# Altium footprint library QC.PcbLib: 6 footprints
Each footprint in its own frame and in the unit in brackets; x right, y up, seen from the top. Pads: shape width x height; smd on the part's side, far side on the other; paste and mask are expansions set on the pad; w line width, h text height; cw(c..) or ccw(c..) is an arc to the next point about the centre after c.
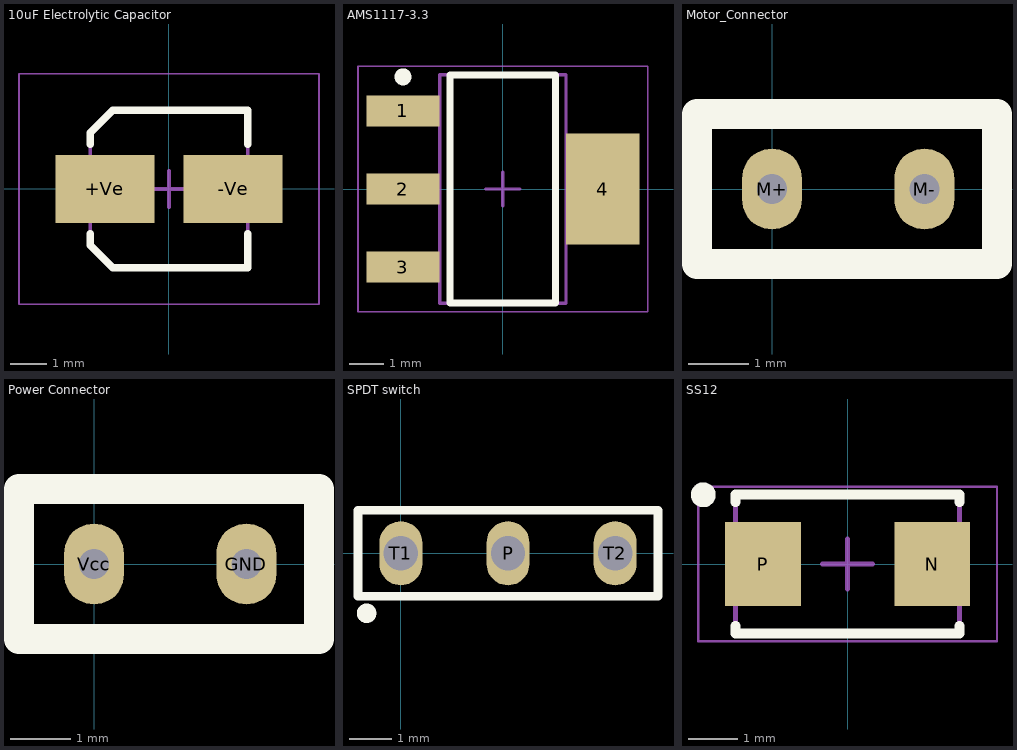
[diagram p0: the footprints below, top view; thin cyan lines are the x and y axes]

## 10uF Electrolytic Capacitor [mm] "Aluminum Electrolytic Capacitor, Body 4.30x4.30x5.40mm, IPC Low Density"
height 5.4
pads (2):
  rect 2.7x1.85 smd: +Ve(-1.75,0) -Ve(1.75,0)
Top Overlay:
  lines w0.2: -2.15,-1.225 -2.15,-1.538 -1.538,-2.15 2.15,-2.15 2.15,-1.225 ; -2.15,1.225 -2.15,1.538 -1.538,2.15 2.15,2.15 2.15,1.225
Mechanical 13:
  lines w0.1: -2.15,-1.538 -1.538,-2.15 2.15,-2.15 2.15,2.15 -1.538,2.15 -2.15,1.538 -2.15,-1.538
Mechanical 15:
  lines w0.05: -4.1,-3.15 -4.1,3.15 4.1,3.15 4.1,-3.15 -4.1,-3.15
  lines w0.1: -0.5,0 0.5,0 ; 0,-0.5 0,0.5
3D body "10uF Electrolytic Capacitor.step": height 5.4, standoff 0, extent -2.3,-2.15 2.3,2.15

## AMS1117-3.3 [mm] "1A LOW DROPOUT VOLTAGE REGULATOR"
height 1.8
pads (4):
  rect 2.15x0.9 smd: 1(-2.93,2.29) 2(-2.93,0) 3(-2.93,-2.29)
  rect 2.15x3.25 smd: 4(2.93,0)
Top Overlay:
  circle w0.25: c-2.93,3.29 r0.125
  lines w0.2: -1.55,-3.35 -1.55,3.35 1.55,3.35 1.55,-3.35 -1.55,-3.35
Mechanical 13:
  lines w0.1: -1.855,-3.355 -1.855,3.355 1.855,3.355 1.855,-3.355 -1.855,-3.355
Mechanical 15:
  lines w0.05: -4.25,-3.6 -4.25,3.6 4.25,3.6 4.25,-3.6 -4.25,-3.6
  lines w0.1: -0.5,0 0.5,0 ; 0,-0.5 0,0.5
3D body "AMS1117-3.3.step": height 1.8, standoff 0, extent -3.5,-3.355 3.5,3.355

## Motor_Connector [mm] "Quadcopter motor connector"
pads (2):
  oval 1x1.35 hole 0.5: M+(0,0) M-(2.54,0)
Top Overlay:
  lines w0.5: -1.25,-1.25 3.75,-1.25 3.75,1.25 -1.25,1.25 -1.25,-1.25

## Power Connector [mm] "connector"
pads (2):
  oval 1x1.35 hole 0.5: GND(2.54,0) Vcc(0,0)
Top Overlay:
  lines w0.5: -1.25,-1.25 3.75,-1.25 3.75,1.25 -1.25,1.25 -1.25,-1.25

## SPDT switch [mm] "switch"
pads (3):
  oval 1x1.5 hole 0.8: P(2.5,0) T1(0,0) T2(5,0)
Top Overlay:
  circle w0.254: c-0.8,-1.4 r0.1
  lines w0.2: -1,-1 6,-1 6,1 -1,1 -1,-1

## SS12 [mm] "Surface Mount Schottky Barrier Rectifier"
height 2.29
pads (2):
  rect 1.52x1.68 smd: N(1.7,0) P(-1.7,0)
Top Overlay:
  circle w0.25: c-2.9,1.39 r0.125
  lines w0.2: -2.25,-1.24 -2.25,-1.4 2.25,-1.4 2.25,-1.24 ; -2.25,1.24 -2.25,1.4 2.25,1.4 2.25,1.24
Mechanical 13:
  lines w0.1: -2.25,-1.395 -2.25,1.395 2.25,1.395 2.25,-1.395 -2.25,-1.395
Mechanical 15:
  lines w0.05: -3,-1.55 -3,1.55 3,1.55 3,-1.55 -3,-1.55
  lines w0.1: -0.5,0 0.5,0 ; 0,-0.5 0,0.5
3D body "SS12.step": height 2.29, standoff 0, extent -2.552,-1.395 2.552,1.395